# EAGLE library part 1EDN7511BXUSA1 (library ICs)
Low-Side Gate Driver IC Inverting, Non-Inverting PG-SOT23-6-2 4A source
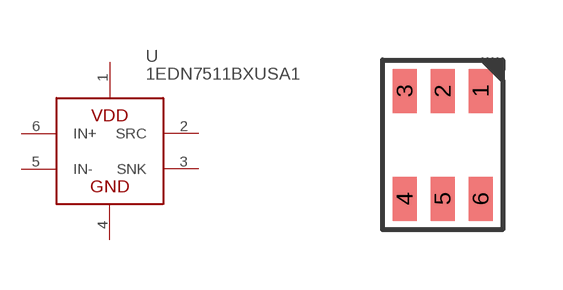
[diagram p185: symbol with the pads of SOT23-6; footprint SOT23-6]

Designator prefix U

## 1EDN7511BXUSA1 (DIGIKEY: 1EDN7511BXUSA1CT-ND; HEIGHT: 2; PRICE_PER: 0.94; VALUE: 1EDN7511BXUSA1)  [SOT23-6]
1  VDD
2  SRC
3  SNK
4  GND
5  IN-
6  IN+

## Footprint SOT23-6 (pad centres in mm)
smd 0.6 x 1.1: 1 0.95,1.35; 2 0,1.35; 3 -0.95,1.35; 4 -0.95,-1.35; 5 0,-1.35; 6 0.95,-1.35